# EAGLE library part LMC555 (library active)
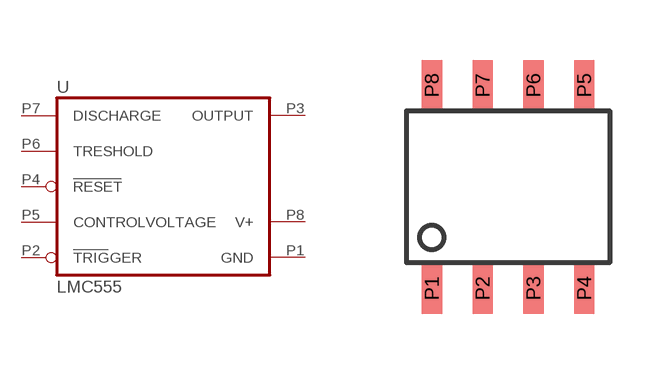
[diagram p0: symbol with the pads of SOIC-8; footprint SOIC-8]

Designator prefix U

## LMC555  [SOIC-8]
P1  GND  pwr
P2  TRIGGER
P3  OUTPUT  out
P4  RESET  in
P5  CONTROLVOLTAGE  pas
P6  TRESHOLD  in
P7  DISCHARGE  in
P8  V+  pwr

## Footprint SOIC-8 (pad centres in mm)
smd 0.508 x 1.27: P1 -1.905,-2.54; P2 -0.635,-2.54; P3 0.635,-2.54; P4 1.905,-2.54; P5 1.905,2.54; P6 0.635,2.54; P7 -0.635,2.54; P8 -1.905,2.54